# Altium footprint library PCB2.PcbLib: 98 footprints (part 4 of 7)
Each footprint in its own frame and in the unit in brackets; x right, y up, seen from the top. Pads: shape width x height; smd on the part's side, far side on the other; paste and mask are expansions set on the pad; w line width, h text height; cw(c..) or ccw(c..) is an arc to the next point about the centre after c.
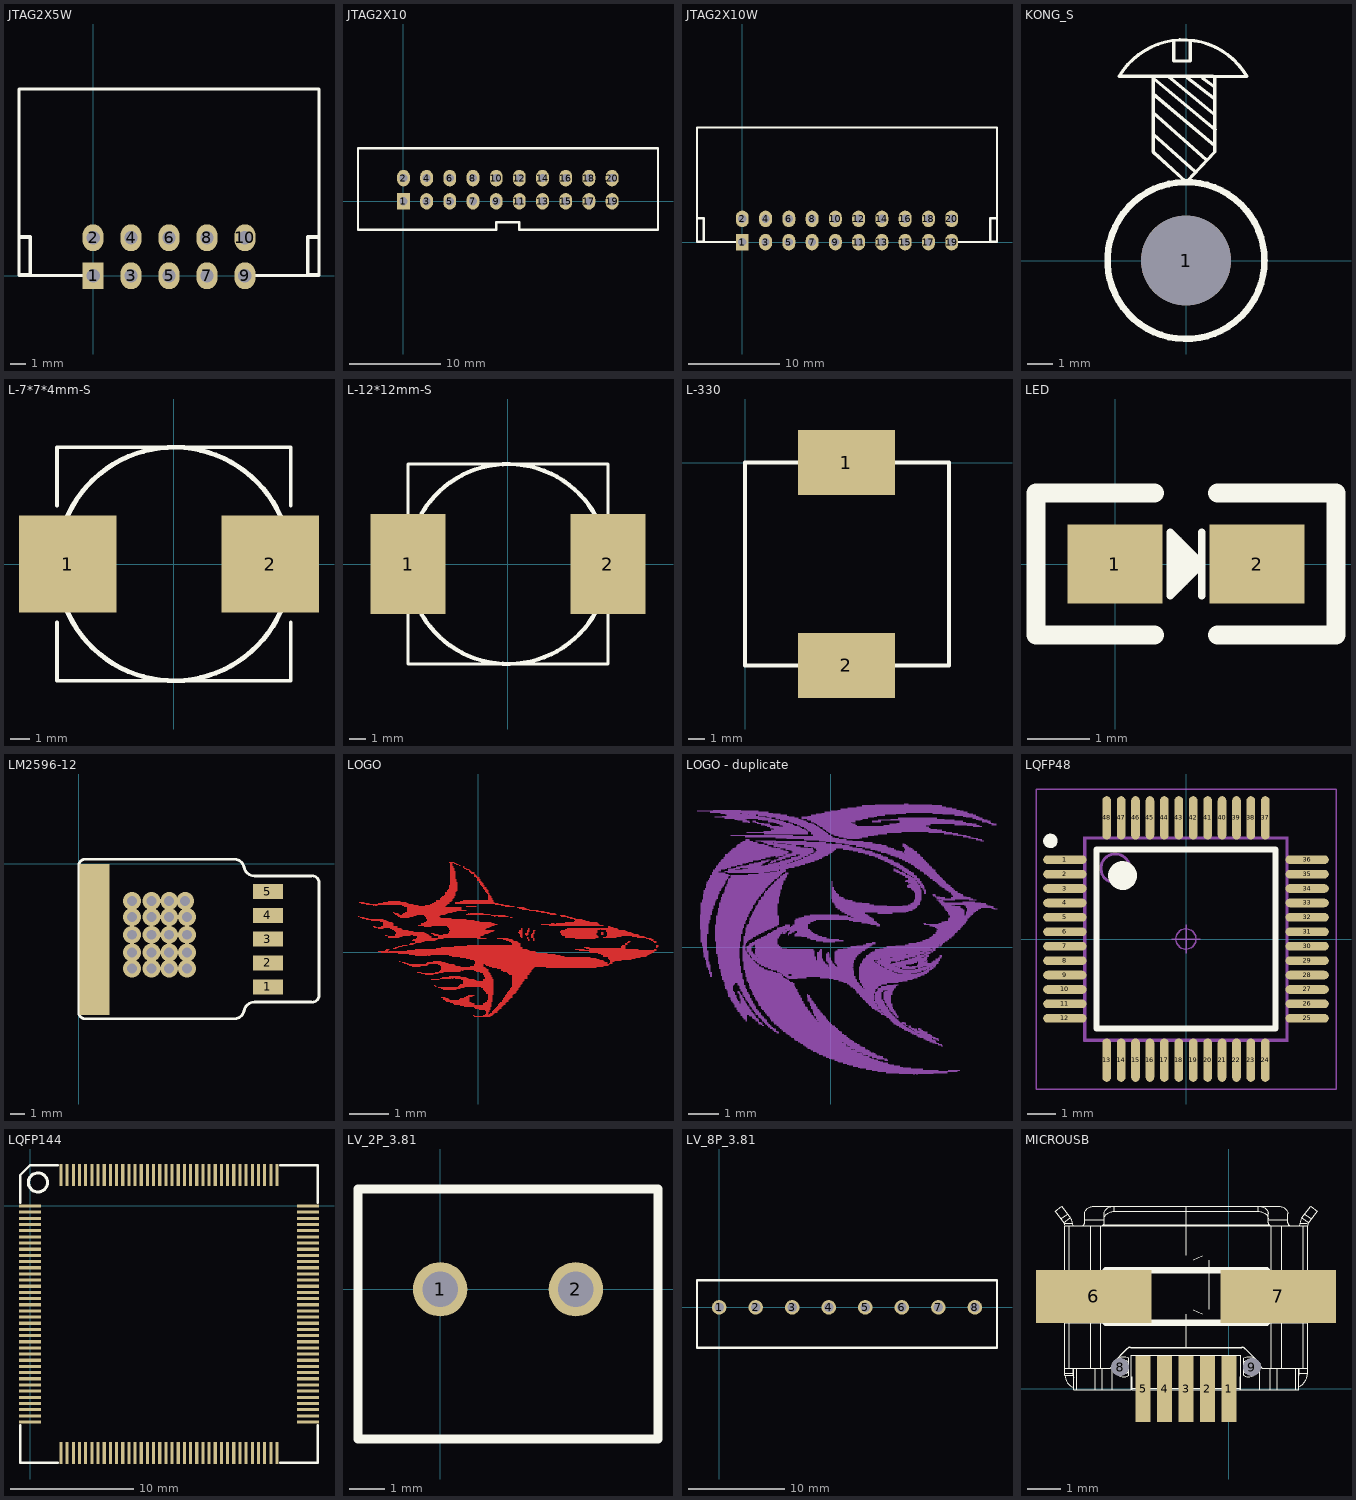
[diagram p3: the footprints below, top view; thin cyan lines are the x and y axes]

## JTAG2X5W [mm]
pads (10):
  rect 1.4x1.8 hole 0.9: 1(0,0)
  oval 1.4x1.8 hole 0.9: 2(0,2.54) 3(2.54,0) 4(2.54,2.54) 5(5.08,0) 6(5.08,2.54) 7(7.62,0) 8(7.62,2.54) 9(10.16,0) 10(10.16,2.54)
Top Overlay:
  lines w0.2: 0,0 -4.95,0 -4.95,12.5 15.11,12.5 15.11,0 10.16,0
  lines w0.254: -4.902,0.051 -4.202,0.051 -4.202,2.591 -4.902,2.591 ; 15.062,0.051 14.362,0.051 14.362,2.591 15.062,2.591

## JTAG2X10 [mm]
pads (20):
  rect 1.4x1.8 hole 0.9: 1(0,0)
  oval 1.4x1.8 hole 0.9: 2(0,2.54) 3(2.54,0) 4(2.54,2.54) 5(5.08,0) 6(5.08,2.54) 7(7.62,0) 8(7.62,2.54) 9(10.16,0) 10(10.16,2.54) 11(12.7,0) 12(12.7,2.54) 13(15.24,0) 14(15.24,2.54) 15(17.78,0) 16(17.78,2.54) 17(20.32,0) 18(20.32,2.54) 19(22.86,0) 20(22.86,2.54)
Top Overlay:
  lines w0.254: -4.978,-3.124 -4.978,5.817 27.889,5.817 27.889,-3.124 12.7,-3.124 12.7,-2.286 10.16,-2.286 10.16,-3.124 -4.978,-3.124
3D body "User Library-LP20V.STEP": height 9.46, standoff -3.2, extent -5.029,-3.254 27.991,5.946

## JTAG2X10W [mm]
pads (20):
  rect 1.4x1.8 hole 0.9: 1(0,0)
  oval 1.4x1.8 hole 0.9: 2(0,2.54) 3(2.54,0) 4(2.54,2.54) 5(5.08,0) 6(5.08,2.54) 7(7.62,0) 8(7.62,2.54) 9(10.16,0) 10(10.16,2.54) 11(12.7,0) 12(12.7,2.54) 13(15.24,0) 14(15.24,2.54) 15(17.78,0) 16(17.78,2.54) 17(20.32,0) 18(20.32,2.54) 19(22.86,0) 20(22.86,2.54)
Top Overlay:
  lines w0.2: 0,0 -4.95,0 -4.95,12.5 27.81,12.5 27.81,0 22.86,0
  lines w0.254: -4.902,0.051 -4.202,0.051 -4.202,2.591 -4.902,2.591 ; 27.762,0.051 27.062,0.051 27.062,2.591 27.762,2.591

## KONG_S [mm]
height 5.08
pads (1):
  round 3.5 hole 3.5: 1(0,0)
Top Overlay:
  circle w0.254: c0,0 r3.05
  lines w0.127: -1.278,4.91 0.356,3.454 ; -1.278,5.744 0.782,3.916 ; -1.278,6.472 1.119,4.466 ; -1.242,7.058 1.137,5.087 ; -0.674,7.147 1.066,5.709 ; -0.479,8.531 -0.479,7.75 0.16,7.75 0.16,8.531 ; 0.036,7.111 1.066,6.312 ; 0.64,7.093 1.066,6.774 ; 1.048,7.164 -1.278,7.164 ; -1.278,7.164 -1.278,4.218 0.018,3.046 1.119,4.218 1.119,7.147 2.373,7.15 ccw(c-0.113,5.698) -2.591,7.164 -1.278,7.164
Bottom Overlay:
  circle w0.2: c0,0 r3.05
  lines w0.2: -2.587,7.212 cw(c-0.169,5.818) 2.276,7.163
  lines w0.254: -2.534,7.182 -2.547,7.194 2.333,7.194 ; -1.208,7.057 -1.208,4.279 0.006,3.065 1.17,4.229 1.17,7.032 ; -0.482,8.533 -0.47,8.546 -0.47,7.795 0.181,7.795 0.181,8.446

## L-7*7*4mm-S [mm]
height 6
pads (2):
  rect 5x5 smd: 1(-5.461,0) 2(4.953,0)
Top Overlay:
  circle w0.254: c0,0 r6
  lines w0.2: -6,-3 -6,-6 6,-6 6,-3 ; -6,3 -6,6 6,6 6,3
3D body "User Library-CDRH127-1.STEP": height 8, standoff -0.2, extent -6.051,-5.944 5.949,6.056

## L-12*12mm-S [mm]
height 6
pads (2):
  rect 4.5x6 smd: 1(-6,0) 2(6,0)
Top Overlay:
  circle w0.254: c0,0 r6
  lines w0.2: -6,-3 -6,-6 6,-6 6,-3 ; -6,3 -6,6 6,6 6,3
3D body "User Library-CDRH127-1.STEP": height 8, standoff -0.2, extent -6.051,-5.944 5.949,6.056

## L-330 [mm]
pads (2):
  rect 6x4 smd: 1(6.25,0) 2(6.25,-12.5)
Top Overlay:
  lines w0.254: 12.5,-12.5 0,-12.5 0,0 12.5,0 ; 12.573,-12.5 12.573,0

## LED [mil]
height 68.9
pads (2):
  rect 60x50 smd: 1(-0.31,0.27) 2(89.69,0.27)
Top Overlay:
  lines w5: 34.69,6.27 39.9,11.48 39.9,15.05 ; 39.9,-6.23 34.69,-6.23 34.69,-2.73 35.19,-3.23 39.9,-3.23 39.9,-0.45 34.69,4.77 34.69,9.84 39.9,15.05 ; 45.69,0.27 49.19,3.77 54.69,3.77 ; 54.69,-19.73 54.69,20.27 ; 54.69,-2.73 47.69,-2.73 44.69,0.27 ; 34.69,-19.73 39.9,-14.52 ; 34.69,-19.73 34.69,20.27 54.69,0.27 ; 34.69,-19.73 54.69,0.27 ; 39.9,-14.52 38.48,-14.52 34.69,-10.73 43.69,-10.73 44.69,-9.73 44.69,10.27 44.69,0.27 ; 39.9,-14.52 39.9,15.05 ; 44.69,0.27 34.69,0.27 54.69,0.27
  lines w12: 24.69,-44.73 -50.31,-44.73 -50.31,45.27 24.69,45.27 ; 64.69,-44.73 139.69,-44.73 139.69,45.27 64.69,45.27

## LM2596-12 [mm]
pads (6):
  rect 2.16x1.07 smd: 1(13.53,-8.8) 2(13.53,-7.1) 3(13.53,-5.4) 4(13.53,-3.7) 5(13.53,-2)
  rect 2.16x10.8 smd: ""(1.143,-5.41)
via 3.81,-3.81 diameter 1.27 hole 0.711
via 5.207,-3.81 diameter 1.27 hole 0.711
via 6.477,-3.81 diameter 1.27 hole 0.711
via 7.747,-3.81 diameter 1.27 hole 0.711
via 3.81,-5.08 diameter 1.27 hole 0.711
via 5.207,-5.08 diameter 1.27 hole 0.711
via 6.477,-5.08 diameter 1.27 hole 0.711
via 7.747,-5.08 diameter 1.27 hole 0.711
via 3.81,-6.35 diameter 1.27 hole 0.711
via 5.207,-6.35 diameter 1.27 hole 0.711
via 6.477,-6.35 diameter 1.27 hole 0.711
via 7.747,-6.35 diameter 1.27 hole 0.711
via 3.81,-7.493 diameter 1.27 hole 0.711
via 5.207,-7.493 diameter 1.27 hole 0.711
via 6.477,-7.493 diameter 1.27 hole 0.711
via 7.747,-7.493 diameter 1.27 hole 0.711
via 3.81,-2.667 diameter 1.27 hole 0.711
via 5.207,-2.667 diameter 1.27 hole 0.711
via 6.477,-2.667 diameter 1.27 hole 0.711
via 7.62,-2.667 diameter 1.27 hole 0.711
Top Overlay:
  lines w0.2: 16.637,-9.896 ccw(c16.696,-9.412) 17.174,-9.51 ; 16.637,-0.873 cw(c16.696,-1.357) 17.174,-1.259
  lines w0.203: 0.016,-10.685 0.016,-0.085 ; 0.023,-10.684 ccw(c0.504,-10.607) 0.407,-11.085 ; 0.023,-0.086 cw(c0.504,-0.163) 0.407,0.315 ; 0.466,-11.085 11.046,-11.085 ccw(c11.13,-10.39) 11.816,-10.53 cw(c12.6,-10.691) 12.697,-9.897 16.637,-9.897 ; 0.466,0.315 11.046,0.315 cw(c11.13,-0.38) 11.816,-0.239 ccw(c12.6,-0.079) 12.697,-0.873 16.637,-0.873 ; 17.174,-9.51 17.174,-1.259

## LOGO [mm]
Top Layer:
  lines w0.025: -3.048,0.914 -3.023,0.914 ; -3.023,1.27 -2.896,1.27 ; -2.997,0.889 -2.896,0.889 ; -2.972,1.245 -2.769,1.245 ; -2.946,0.864 -2.794,0.864 ; -2.845,0.838 -2.413,0.838 ; -2.845,1.219 -1.651,1.219 ; -2.718,0.813 -2.337,0.813 ; -2.667,0.66 -2.616,0.66 ; -2.667,1.194 -2.642,1.194 ; -2.642,0.635 -2.565,0.635 ; -2.616,1.194 -2.565,1.194 ; -2.54,0.025 -2.286,0.025 ; -2.54,0.61 -2.413,0.61 ; -2.54,0.635 -2.057,0.635 ; -2.54,1.245 -1.778,1.245 ; -2.489,0.787 -2.286,0.787 ; -2.464,0 1.473,0 ; -2.464,0.66 -2.057,0.66 ; -2.413,0.686 -2.159,0.686 ; -2.413,0.711 -2.159,0.711 ; -2.413,0.737 -2.159,0.737 ; -2.413,0.762 -2.184,0.762 ; -2.413,1.27 -1.829,1.27 ; -2.362,0.051 -2.286,0.051 ; -2.362,0.432 -2.311,0.432 ; -2.337,0.076 -2.261,0.076 ; -2.286,0.381 -2.007,0.381 ; -2.286,0.406 -1.93,0.406 ; -2.286,1.295 -1.981,1.295 ; -2.261,0.025 1.448,0.025 ; -2.235,0.61 -1.956,0.61 ; -2.184,0.584 -1.93,0.584 ; -2.159,0.102 -2.083,0.102 ; -2.159,1.016 -2.134,1.016 ; -2.134,0.559 -1.778,0.559 ; -2.134,0.991 -2.032,0.991 ; -2.108,0.127 -2.032,0.127 ; -2.108,0.432 -1.727,0.432 ; -2.108,0.457 -1.27,0.457 ; -2.108,0.533 -1.651,0.533 ; -2.108,0.965 -2.007,0.965 ; -2.083,0.483 -1.321,0.483 ; -2.083,0.508 -1.372,0.508 ; -2.057,0.94 -1.575,0.94 ; -2.032,-0.025 1.753,-0.025 ; -2.032,0.152 -1.93,0.152 ; -2.032,0.914 -1.651,0.914 ; -2.007,-0.229 -1.981,-0.229 ; -1.981,0.889 -1.753,0.889 ; -1.93,-0.254 -1.854,-0.254 ; -1.93,0.178 -1.803,0.178 ; -1.93,0.965 -0.838,0.965 ; -1.93,1.194 -1.524,1.194 ; -1.905,0.991 -0.787,0.991 ; -1.88,-0.279 -1.778,-0.279 ; -1.88,1.168 -0.838,1.168 ; -1.854,1.016 -0.66,1.016 ; -1.803,-0.305 -1.27,-0.305 ; -1.803,0.051 1.295,0.051 ; -1.803,1.041 -0.559,1.041 ; -1.803,1.067 -0.305,1.067 ; -1.803,1.092 -0.432,1.092 ; -1.803,1.118 -0.432,1.118 ; -1.803,1.143 -0.432,1.143 ; -1.753,-0.33 -1.295,-0.33 ; -1.753,-0.051 1.956,-0.051 ; -1.753,0.203 -1.651,0.203 ; -1.727,0.229 -1.6,0.229 ; -1.676,-0.356 -1.473,-0.356 ; -1.676,0.305 -1.092,0.305 ; -1.651,0.33 -1.041,0.33 ; -1.651,0.432 -1.245,0.432 ; -1.6,-0.076 -1.295,-0.076 ; -1.6,0.076 1.245,0.076 ; -1.6,0.254 -1.448,0.254 ; -1.6,0.279 -1.372,0.279 ; -1.575,0.356 -0.889,0.356 ; -1.549,-0.508 -1.448,-0.508 ; -1.549,0.381 -1.194,0.381 ; -1.549,0.406 -1.194,0.406 ; -1.524,0.686 0.406,0.686 ; -1.448,-0.533 -1.016,-0.533 ; -1.448,0.711 0.483,0.711 ; -1.448,0.737 0.406,0.737 ; -1.372,0.66 -1.194,0.66 ; -1.372,0.762 0.33,0.762 ; -1.372,0.94 -0.965,0.94 ; -1.346,-0.559 -1.143,-0.559 ; -1.346,0.914 -0.991,0.914 ; -1.346,1.194 -0.813,1.194 ; -1.321,-0.279 -0.762,-0.279 ; -1.321,0.787 0.025,0.787 ; -1.321,0.864 -0.686,0.864 ; -1.321,0.889 -0.965,0.889 ; -1.295,-0.254 -0.838,-0.254 ; -1.295,0.813 -0.102,0.813 ; -1.295,0.838 -0.305,0.838 ; -1.27,-0.076 -1.219,-0.076 ; -1.219,1.219 -0.787,1.219 ; -1.194,-0.686 -0.991,-0.686 ; -1.194,0.483 -1.118,0.483 ; -1.168,1.245 -0.737,1.245 ; -1.143,-0.229 -0.94,-0.229 ; -1.143,0.457 -1.016,0.457 ; -1.118,-0.838 -1.092,-0.838 ; -1.118,0.432 0.127,0.432 ; -1.118,1.27 -0.737,1.27 ; -1.092,-0.864 -1.067,-0.864 ; -1.092,-0.508 -0.889,-0.508 ; -1.067,0.102 1.118,0.102 ; -1.067,1.295 -0.686,1.295 ; -1.067,1.321 -0.66,1.321 ; -1.016,-0.889 -0.356,-0.889 ; -1.016,-0.305 -0.61,-0.305 ; -1.016,0.381 0.051,0.381 ; -1.016,0.406 0.051,0.406 ; -0.991,-0.483 -0.457,-0.483 ; -0.965,-0.66 -0.686,-0.66 ; -0.965,-0.457 -0.432,-0.457 ; -0.965,-0.33 -0.584,-0.33 ; -0.965,1.346 -0.66,1.346 ; -0.965,1.372 -0.635,1.372 ; -0.94,-1.143 -0.838,-1.143 ; -0.94,-0.914 -0.457,-0.914 ; -0.94,-0.432 0.254,-0.432 ; -0.94,-0.406 0.203,-0.406 ; -0.94,-0.381 0.178,-0.381 ; -0.94,-0.356 -0.457,-0.356 ; -0.94,0.127 1.118,0.127 ; -0.94,1.397 -0.61,1.397 ; -0.914,-0.635 -0.305,-0.635 ; -0.914,1.422 -0.61,1.422 ; -0.889,-1.194 -0.737,-1.194 ; -0.889,-1.168 -0.762,-1.168 ; -0.889,-0.94 -0.559,-0.94 ; -0.889,0.457 0.152,0.457 ; -0.864,1.448 -0.584,1.448 ; -0.838,-1.219 -0.229,-1.219 ; -0.838,1.473 -0.584,1.473 ; -0.838,1.499 -0.584,1.499 ; -0.838,1.524 -0.584,1.524 ; -0.813,-1.245 -0.229,-1.245 ; -0.787,0.66 0.33,0.66 ; -0.787,1.549 -0.559,1.549 ; -0.787,1.575 -0.533,1.575 ; -0.762,0.483 0.254,0.483 ; -0.762,0.635 0.279,0.635 ; -0.762,1.6 -0.533,1.6 ; -0.737,-0.61 -0.457,-0.61 ; -0.737,-0.076 2.083,-0.076 ; -0.737,0.508 0.305,0.508 ; -0.737,0.533 0.381,0.533 ; -0.737,0.584 0.178,0.584 ; -0.737,0.61 0.203,0.61 ; -0.737,1.626 -0.533,1.626 ; -0.737,1.651 -0.533,1.651 ; -0.737,1.676 -0.533,1.676 ; -0.737,1.702 -0.533,1.702 ; -0.737,2.286 -0.61,2.286 ; -0.711,-1.27 -0.178,-1.27 ; -0.711,0.559 0.406,0.559 ; -0.711,1.727 -0.533,1.727 ; -0.711,1.753 -0.533,1.753 ; -0.711,1.778 -0.533,1.778 ; -0.711,1.803 -0.559,1.803 ; -0.711,1.829 -0.559,1.829 ; -0.711,1.854 -0.559,1.854 ; -0.711,1.88 -0.584,1.88 ; -0.711,1.905 -0.584,1.905 ; -0.711,1.93 -0.584,1.93 ; -0.711,1.956 -0.584,1.956 ; -0.711,1.981 -0.584,1.981 ; -0.711,2.007 -0.584,2.007 ; -0.711,2.032 -0.584,2.032 ; -0.711,2.057 -0.584,2.057 ; -0.711,2.083 -0.61,2.083 ; -0.711,2.108 -0.61,2.108 ; -0.711,2.134 -0.61,2.134 ; -0.711,2.159 -0.635,2.159 ; -0.711,2.184 -0.635,2.184 ; -0.711,2.21 -0.66,2.21 ; -0.711,2.235 -0.66,2.235 ; -0.711,2.261 -0.66,2.261 ; -0.66,-0.66 -0.635,-0.66 ; -0.66,-0.102 2.184,-0.102 ; -0.635,-1.295 -0.102,-1.295 ; -0.61,-1.321 -0.102,-1.321 ; -0.61,0.152 1.067,0.152 ; -0.61,2.261 -0.559,2.261 ; -0.584,-0.66 -0.254,-0.66 ; -0.584,1.245 0.508,1.245 ; -0.584,1.27 0.406,1.27 ; -0.559,2.235 -0.508,2.235 ; -0.508,-0.864 0.381,-0.864 ; -0.483,-1.194 -0.229,-1.194 ; -0.483,-0.838 0.381,-0.838 ; -0.483,2.21 -0.457,2.21 ; -0.457,-1.346 0.33,-1.346 ; -0.457,-1.168 -0.229,-1.168 ; -0.457,-0.813 0.381,-0.813 ; -0.457,-0.127 2.845,-0.127 ; -0.457,1.295 0.381,1.295 ; -0.432,-0.686 -0.102,-0.686 ; -0.406,-0.457 -0.381,-0.457 ; -0.381,-0.787 0.381,-0.787 ; -0.381,-0.762 0.381,-0.762 ; -0.381,-0.737 0.381,-0.737 ; -0.381,-0.711 -0.051,-0.711 ; -0.381,1.321 0.381,1.321 ; -0.381,2.159 -0.356,2.159 ; -0.381,2.184 -0.356,2.184 ; -0.356,-1.372 0.33,-1.372 ; -0.356,-1.143 -0.229,-1.143 ; -0.356,2.134 -0.305,2.134 ; -0.305,-1.118 -0.152,-1.118 ; -0.305,-0.152 2.997,-0.152 ; -0.305,0.965 0.305,0.965 ; -0.305,1.168 -0.051,1.168 ; -0.305,2.108 -0.229,2.108 ; -0.279,0.178 1.067,0.178 ; -0.254,-1.092 -0.102,-1.092 ; -0.254,0.991 -0.229,0.991 ; -0.229,2.057 -0.178,2.057 ; -0.229,2.083 -0.203,2.083 ; -0.203,-0.356 0.127,-0.356 ; -0.203,-0.178 3.073,-0.178 ; -0.203,0.991 0.127,0.991 ; -0.203,2.032 -0.102,2.032 ; -0.178,2.007 -0.102,2.007 ; -0.127,-1.6 -0.102,-1.6 ; -0.102,-1.626 0.305,-1.626 ; -0.102,-1.397 0.305,-1.397 ; -0.102,-0.457 0.254,-0.457 ; -0.102,-0.33 0.127,-0.33 ; -0.102,-0.305 0.127,-0.305 ; -0.102,-0.203 3.175,-0.203 ; -0.102,1.93 -0.025,1.93 ; -0.102,1.956 -0.051,1.956 ; -0.102,1.981 -0.076,1.981 ; -0.076,-1.422 0.305,-1.422 ; -0.076,-0.279 3.277,-0.279 ; -0.076,-0.254 3.277,-0.254 ; -0.076,-0.229 3.2,-0.229 ; -0.051,-0.483 0.254,-0.483 ; -0.051,1.905 0.025,1.905 ; -0.025,0.356 0.203,0.356 ; -0.025,1.829 0.051,1.829 ; -0.025,1.854 0.051,1.854 ; -0.025,1.88 0.025,1.88 ; 0.025,-1.448 0.305,-1.448 ; 0.025,1.778 0.102,1.778 ; 0.025,1.803 0.076,1.803 ; 0.051,-0.508 0.279,-0.508 ; 0.051,1.727 0.127,1.727 ; 0.051,1.753 0.127,1.753 ; 0.076,-0.889 0.381,-0.889 ; 0.076,1.702 0.152,1.702 ; 0.102,1.676 0.152,1.676 ; 0.127,-1.6 0.356,-1.6 ; 0.127,-1.321 0.33,-1.321 ; 0.127,-1.295 0.33,-1.295 ; 0.127,-0.94 0.381,-0.94 ; 0.127,-0.914 0.381,-0.914 ; 0.127,-0.711 0.381,-0.711 ; 0.127,-0.686 0.381,-0.686 ; 0.127,-0.559 0.305,-0.559 ; 0.127,-0.533 0.305,-0.533 ; 0.127,1.626 0.203,1.626 ; 0.127,1.651 0.203,1.651 ; 0.152,-0.965 0.381,-0.965 ; 0.152,-0.61 0.33,-0.61 ; 0.152,-0.584 0.33,-0.584 ; 0.152,1.6 0.229,1.6 ; 0.178,-1.575 0.254,-1.575 ; 0.178,-1.473 0.279,-1.473 ; 0.178,-1.27 0.33,-1.27 ; 0.178,-0.991 0.381,-0.991 ; 0.178,-0.66 0.356,-0.66 ; 0.178,-0.635 0.356,-0.635 ; 0.178,-0.305 3.327,-0.305 ; 0.178,1.549 0.254,1.549 ; 0.178,1.575 0.254,1.575 ; 0.203,-1.549 0.254,-1.549 ; 0.203,-1.524 0.254,-1.524 ; 0.203,-1.499 0.279,-1.499 ; 0.203,-1.041 0.381,-1.041 ; 0.203,-1.016 0.381,-1.016 ; 0.203,-0.33 3.302,-0.33 ; 0.203,1.524 0.254,1.524 ; 0.229,-1.245 0.356,-1.245 ; 0.229,-1.219 0.356,-1.219 ; 0.229,1.499 0.279,1.499 ; 0.254,-1.194 0.356,-1.194 ; 0.254,-1.168 0.356,-1.168 ; 0.254,-1.143 0.356,-1.143 ; 0.254,-1.118 0.356,-1.118 ; 0.254,-1.092 0.356,-1.092 ; 0.254,-1.067 0.381,-1.067 ; 0.254,1.346 0.356,1.346 ; 0.254,1.372 0.356,1.372 ; 0.254,1.397 0.33,1.397 ; 0.254,1.422 0.33,1.422 ; 0.254,1.448 0.305,1.448 ; 0.254,1.473 0.279,1.473 ; 0.279,-1.575 0.381,-1.575 ; 0.279,-0.356 3.175,-0.356 ; 0.305,-1.549 0.406,-1.549 ; 0.33,0.94 0.686,0.94 ; 0.356,-1.524 0.483,-1.524 ; 0.356,-1.499 0.483,-1.499 ; 0.356,-0.381 1.422,-0.381 ; 0.381,-1.473 0.508,-1.473 ; 0.406,-1.448 0.533,-1.448 ; 0.406,0.914 0.432,0.914 ; 0.432,-1.422 0.584,-1.422 ; 0.432,1.219 0.635,1.219 ; 0.457,-1.397 0.584,-1.397 ; 0.483,-1.372 0.61,-1.372 ; 0.483,-0.406 1.397,-0.406 ; 0.483,0.356 0.762,0.356 ; 0.508,-1.346 0.635,-1.346 ; 0.508,-1.321 0.686,-1.321 ; 0.508,0.914 0.762,0.914 ; 0.533,-1.295 0.686,-1.295 ; 0.559,-1.27 0.711,-1.27 ; 0.584,-0.457 1.346,-0.457 ; 0.584,-0.432 1.372,-0.432 ; 0.584,1.194 0.787,1.194 ; 0.61,-1.245 0.762,-1.245 ; 0.61,-1.219 0.762,-1.219 ; 0.635,-1.194 0.787,-1.194 ; 0.635,-1.168 0.813,-1.168 ; 0.635,-0.483 1.346,-0.483 ; 0.635,0.33 0.864,0.33 ; 0.66,-1.143 0.864,-1.143 ; 0.686,-1.118 0.864,-1.118 ; 0.686,-1.092 0.864,-1.092 ; 0.686,1.168 0.914,1.168 ; 0.711,-1.067 0.889,-1.067 ; 0.711,0.305 0.889,0.305 ; 0.737,-1.041 0.94,-1.041 ; 0.737,-1.016 0.965,-1.016 ; 0.737,-0.508 1.321,-0.508 ; 0.762,-0.991 0.965,-0.991 ; 0.762,-0.533 1.295,-0.533 ; 0.787,-0.965 0.991,-0.965 ; 0.787,-0.559 1.295,-0.559 ; 0.787,0.279 0.991,0.279 ; 0.813,-0.94 1.016,-0.94 ; 0.813,-0.914 1.016,-0.914 ; 0.813,0.889 0.864,0.889 ; 0.838,-0.889 1.041,-0.889 ; 0.838,0.254 1.016,0.254 ; 0.864,-0.864 1.067,-0.864 ; 0.864,-0.838 1.067,-0.838 ; 0.864,-0.813 1.092,-0.813 ; 0.864,-0.787 1.118,-0.787 ; 0.864,-0.762 1.118,-0.762 ; 0.864,-0.737 1.143,-0.737 ; 0.864,-0.711 1.168,-0.711 ; 0.864,-0.686 1.168,-0.686 ; 0.864,-0.66 1.245,-0.66 ; 0.864,-0.635 1.245,-0.635 ; 0.864,-0.61 1.245,-0.61 ; 0.864,-0.584 1.245,-0.584 ; 0.864,0.203 1.067,0.203 ; 0.864,0.229 1.067,0.229 ; 0.991,1.143 1.168,1.143 ; 1.016,0.508 1.118,0.508 ; 1.041,0.483 1.118,0.483 ; 1.041,0.533 1.118,0.533 ; 1.041,0.559 1.118,0.559 ; 1.041,1.118 1.219,1.118 ; 1.067,0.406 1.118,0.406 ; 1.067,0.432 1.118,0.432 ; 1.067,0.457 1.118,0.457 ; 1.092,0.381 1.118,0.381 ; 1.092,0.584 1.118,0.584 ; 1.092,0.61 1.118,0.61 ; 1.118,1.092 1.295,1.092 ; 1.194,0.457 1.27,0.457 ; 1.194,0.483 1.27,0.483 ; 1.219,0.432 1.245,0.432 ; 1.245,0.356 1.27,0.356 ; 1.245,0.381 1.27,0.381 ; 1.245,0.508 1.27,0.508 ; 1.245,0.533 1.295,0.533 ; 1.245,0.559 1.295,0.559 ; 1.27,0.305 1.295,0.305 ; 1.27,0.33 1.295,0.33 ; 1.27,0.584 1.295,0.584 ; 1.27,0.61 1.295,0.61 ; 1.295,1.067 1.524,1.067 ; 1.346,0.381 1.397,0.381 ; 1.346,0.406 1.397,0.406 ; 1.346,0.432 1.397,0.432 ; 1.346,0.457 1.397,0.457 ; 1.372,0.483 1.422,0.483 ; 1.397,0.305 1.422,0.305 ; 1.397,0.33 1.422,0.33 ; 1.397,0.356 1.422,0.356 ; 1.397,0.508 1.422,0.508 ; 1.397,0.533 1.422,0.533 ; 1.397,0.559 1.448,0.559 ; 1.473,1.041 1.676,1.041 ; 1.6,0.711 3.073,0.711 ; 1.6,1.016 1.803,1.016 ; 1.727,-0.381 2.997,-0.381 ; 1.753,0.991 1.956,0.991 ; 1.803,0.686 3.175,0.686 ; 1.829,0.965 1.981,0.965 ; 1.854,0.737 1.93,0.737 ; 1.981,0.737 3.048,0.737 ; 2.083,0.508 3.023,0.508 ; 2.083,0.533 3.023,0.533 ; 2.083,0.94 2.21,0.94 ; 2.108,0.457 2.997,0.457 ; 2.108,0.483 2.997,0.483 ; 2.108,0.559 3.023,0.559 ; 2.108,0.914 2.286,0.914 ; 2.134,0.432 3.023,0.432 ; 2.21,0.381 3.048,0.381 ; 2.21,0.406 3.048,0.406 ; 2.21,0.584 3.099,0.584 ; 2.21,0.762 3.023,0.762 ; 2.261,0.61 3.531,0.61 ; 2.261,0.889 2.388,0.889 ; 2.337,0.864 2.464,0.864 ; 2.438,0.787 2.819,0.787 ; 2.438,0.838 2.642,0.838 ; 2.464,0.076 2.692,0.076 ; 2.464,0.356 2.972,0.356 ; 2.464,0.813 2.718,0.813 ; 2.565,0.051 4.521,0.051 ; 2.692,0.127 2.819,0.127 ; 2.743,0.102 3.734,0.102 ; 2.819,0.025 4.47,0.025 ; 2.819,0.076 4.064,0.076 ; 2.845,0 4.445,0 ; 3.048,-0.025 4.394,-0.025 ; 3.124,-0.051 4.343,-0.051 ; 3.124,0.457 3.175,0.457 ; 3.124,0.483 3.175,0.483 ; 3.124,0.508 3.175,0.508 ; 3.124,0.584 3.556,0.584 ; 3.175,-0.102 4.267,-0.102 ; 3.175,-0.076 4.293,-0.076 ; 3.175,0.381 3.505,0.381 ; 3.251,0.406 3.632,0.406 ; 3.251,0.533 3.785,0.533 ; 3.251,0.559 3.734,0.559 ; 3.277,0.432 4.089,0.432 ; 3.277,0.457 4.064,0.457 ; 3.277,0.483 3.937,0.483 ; 3.277,0.508 3.886,0.508 ; 3.302,-0.152 3.988,-0.152 ; 3.302,-0.127 4.115,-0.127 ; 3.302,0.635 3.429,0.635 ; 3.302,0.66 3.353,0.66 ; 3.327,-0.279 3.404,-0.279 ; 3.327,-0.178 3.886,-0.178 ; 3.353,-0.254 3.404,-0.254 ; 3.353,-0.229 3.454,-0.229 ; 3.353,-0.203 3.632,-0.203 ; 3.632,0.127 3.734,0.127 ; 3.632,0.152 3.734,0.152 ; 3.658,0.178 3.734,0.178 ; 3.734,0.203 3.785,0.203 ; 3.734,0.229 3.785,0.229 ; 3.785,0.254 3.835,0.254 ; 3.81,0.279 3.861,0.279 ; 3.912,0.406 4.216,0.406 ; 4.039,0.381 4.267,0.381 ; 4.267,0.356 4.394,0.356 ; 4.343,0.33 4.445,0.33 ; 4.394,0.305 4.445,0.305 ; 4.445,0.279 4.521,0.279 ; 4.47,0.076 4.521,0.076 ; 4.47,0.254 4.521,0.254 ; 4.521,0.127 4.547,0.127 ; 4.521,0.152 4.572,0.152 ; 4.521,0.178 4.572,0.178

## LOGO - duplicate [mm]
Bottom Overlay:
  drawing of 1946 lines, arcs and shapes, not listed

## LQFP48 [mm]
pads (48):
  oval 1.5x0.3 smd: 1(-4.2,2.75) 2(-4.2,2.25) 3(-4.2,1.75) 4(-4.2,1.25) 5(-4.2,0.75) 6(-4.2,0.25) 7(-4.2,-0.25) 8(-4.2,-0.75) 9(-4.2,-1.25) 10(-4.2,-1.75) 11(-4.2,-2.25) 12(-4.2,-2.75) 25(4.2,-2.75) 26(4.2,-2.25) 27(4.2,-1.75) 28(4.2,-1.25) 29(4.2,-0.75) 30(4.2,-0.25) 31(4.2,0.25) 32(4.2,0.75) 33(4.2,1.25) 34(4.2,1.75) 35(4.2,2.25) 36(4.2,2.75)
  oval 0.3x1.5 smd: 13(-2.75,-4.2) 14(-2.25,-4.2) 15(-1.75,-4.2) 16(-1.25,-4.2) 17(-0.75,-4.2) 18(-0.25,-4.2) 19(0.25,-4.2) 20(0.75,-4.2) 21(1.25,-4.2) 22(1.75,-4.2) 23(2.25,-4.2) 24(2.75,-4.2) 37(2.75,4.2) 38(2.25,4.2) 39(1.75,4.2) 40(1.25,4.2) 41(0.75,4.2) 42(0.25,4.2) 43(-0.25,4.2) 44(-0.75,4.2) 45(-1.25,4.2) 46(-1.75,4.2) 47(-2.25,4.2) 48(-2.75,4.2)
Top Overlay:
  circle w0.5: c-2.2,2.2 r0.25
  circle w0.25: c-4.7,3.4 r0.125
  lines w0.2: -3.1,-3.1 -3.1,3.1 3.1,3.1 3.1,-3.1 -3.1,-3.1
Mechanical 15:
  circle w0.1: c-2.45,2.45 r0.5
  lines w0.1: -3.5,-3.5 -3.5,3.5 3.5,3.5 3.5,-3.5 -3.5,-3.5
Mechanical 16:
  circle w0.05: c0,0 r0.35
  lines w0.001: -3.55,-3.55 -3.55,3.55 3.55,3.55 3.55,-3.55 -3.55,-3.55
  lines w0.05: -0.5,0 0.5,0 ; 0,-0.5 0,0.5 ; -5.2,-5.2 -5.2,5.2 5.2,5.2 5.2,-5.2 -5.2,-5.2

## LQFP144 [mm]
pads (144):
  rect 1.8x0.254 smd: 1(-0.009,0.001) 2(-0.009,-0.499) 3(-0.009,-0.999) 4(-0.009,-1.499) 5(-0.009,-1.999) 6(-0.009,-2.499) 7(-0.009,-2.999) 8(-0.009,-3.499) 9(-0.009,-3.999) 10(-0.009,-4.499) 11(-0.009,-4.999) 12(-0.009,-5.499) 13(-0.009,-5.999) 14(-0.009,-6.499) 15(-0.009,-6.999) 16(-0.009,-7.499) 17(-0.009,-7.999) 18(-0.009,-8.499) 19(-0.009,-8.999) 20(-0.009,-9.499) 21(-0.009,-9.999) 22(-0.009,-10.499) 23(-0.009,-10.999) 24(-0.009,-11.499) 25(-0.009,-11.999) 26(-0.009,-12.499) 27(-0.009,-12.999) 28(-0.009,-13.499) 29(-0.009,-13.999) 30(-0.009,-14.499) 31(-0.009,-14.999) 32(-0.009,-15.499) 33(-0.009,-15.999) 34(-0.009,-16.499) 35(-0.009,-16.999) 36(-0.009,-17.499) 73(22.491,-17.499) 74(22.491,-16.999) 75(22.491,-16.499) 76(22.491,-15.999) 77(22.491,-15.499) 78(22.491,-14.999) 79(22.491,-14.499) 80(22.491,-13.999) 81(22.491,-13.499) 82(22.491,-12.999) 83(22.491,-12.499) 84(22.491,-11.999) 85(22.491,-11.499) 86(22.491,-10.999) 87(22.491,-10.499) 88(22.491,-9.999) 89(22.491,-9.499) 90(22.491,-8.999) 91(22.491,-8.499) 92(22.491,-7.999) 93(22.491,-7.499) 94(22.491,-6.999) 95(22.491,-6.499) 96(22.491,-5.999) 97(22.491,-5.499) 98(22.491,-4.999) 99(22.491,-4.499) 100(22.491,-3.999) 101(22.491,-3.499) 102(22.491,-2.999) 103(22.491,-2.499) 104(22.491,-1.999) 105(22.491,-1.499) 106(22.491,-0.999) 107(22.491,-0.499) 108(22.491,0.001)
  rect 0.254x1.8 smd: 37(2.491,-19.999) 38(2.991,-19.999) 39(3.491,-19.999) 40(3.991,-19.999) 41(4.491,-19.999) 42(4.991,-19.999) 43(5.491,-19.999) 44(5.991,-19.999) 45(6.491,-19.999) 46(6.991,-19.999) 47(7.491,-19.999) 48(7.991,-19.999) 49(8.491,-19.999) 50(8.991,-19.999) 51(9.491,-19.999) 52(9.991,-19.999) 53(10.491,-19.999) 54(10.991,-19.999) 55(11.491,-19.999) 56(11.991,-19.999) 57(12.491,-19.999) 58(12.991,-19.999) 59(13.491,-19.999) 60(13.991,-19.999) 61(14.491,-19.999) 62(14.991,-19.999) 63(15.491,-19.999) 64(15.991,-19.999) 65(16.491,-19.999) 66(16.991,-19.999) 67(17.491,-19.999) 68(17.991,-19.999) 69(18.491,-19.999) 70(18.991,-19.999) 71(19.491,-19.999) 72(19.991,-19.999) 109(19.991,2.501) 110(19.491,2.501) 111(18.991,2.501) 112(18.491,2.501) 113(17.991,2.501) 114(17.491,2.501) 115(16.991,2.501) 116(16.491,2.501) 117(15.991,2.501) 118(15.491,2.501) 119(14.991,2.501) 120(14.491,2.501) 121(13.991,2.501) 122(13.491,2.501) 123(12.991,2.501) 124(12.491,2.501) 125(11.991,2.501) 126(11.491,2.501) 127(10.991,2.501) 128(10.491,2.501) 129(9.991,2.501) 130(9.491,2.501) 131(8.991,2.501) 132(8.491,2.501) 133(7.991,2.501) 134(7.491,2.501) 135(6.991,2.501) 136(6.491,2.501) 137(5.991,2.501) 138(5.491,2.501) 139(4.991,2.501) 140(4.491,2.501) 141(3.991,2.501) 142(3.491,2.501) 143(2.991,2.501) 144(2.491,2.501)
Top Overlay:
  circle w0.254: c0.624,1.905 r0.773
  lines w0.2: -0.809,-17.749 -0.809,-20.799 2.241,-20.799 ; -0.809,0.251 -0.809,2.501 -0.009,3.301 2.241,3.301 ; 20.241,-20.799 23.291,-20.799 23.291,-17.749 ; 20.241,3.301 23.291,3.301 23.291,0.251

## LV_2P_3.81 [mil]
pads (2):
  round 60 hole 39.37: 1(0,0) 2(150,0)
Top Overlay:
  lines w10: -90.75,-165.59 -90.75,110 -90.75,0 ; -90.75,-165.35 -75,-165.35 240.75,-165.35 240.75,110 ; -90.75,111 240.75,111

## LV_8P_3.81 [mil]
pads (8):
  round 60 hole 39.37: 1(0,0) 2(150,0) 3(300,0) 4(450,0) 5(600,0) 6(750,0) 7(900,0) 8(1050,0)
Top Overlay:
  lines w10: -90.75,-165.59 -90.75,110 -90.75,0 ; -90.75,-165.35 -75,-165.35 1140.75,-165.35 1140.75,110 ; -90.75,111 1140.75,111

## MICROUSB [mm]
pads (9):
  rect 0.45x2 smd: 1(0,0) 2(-0.65,0) 3(-1.3,0) 4(-1.95,0) 5(-2.6,0)
  rect 3.5x1.6 / inner round 1 / far side oval 1.2x1 all layers, no hole: 6(-4.1,2.802) 7(1.5,2.802)
  round 0.5 / inner round 0.7 / far side round 0.5 hole 0.55 unplated: 8(-3.3,0.66) 9(0.7,0.66)
Top Overlay:
  drawing of 299 lines, arcs and shapes, not listed